# EAGLE library part 219-04* (library powermon)
Surface Mount DIP Switch Series 219 SMT CTS Electronic Components Sourc: www.ctscorp.com
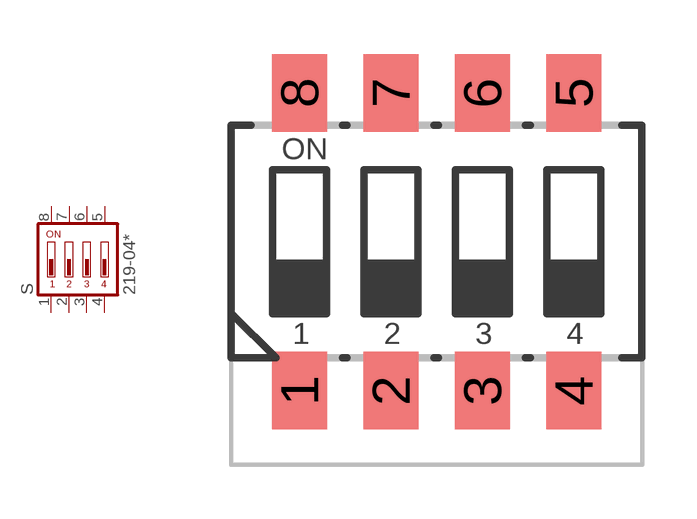
[diagram p0: symbol with the pads of CTS-219-04; footprint CTS-219-04]

Designator prefix S

## 219-04 (OC_FARNELL: unknown; OC_NEWARK: unknown)  [CTS-219-04]
1  1  pas
2  2  pas
3  3  pas
4  4  pas
5  5  pas
6  6  pas
7  7  pas
8  8  pas

## Footprint CTS-219-04 (pad centres in mm)
Dip switch BPA04SB / Digikey CKN6141-ND
smd 1.524 x 2.159: 1 -3.81,-4.128; 2 -1.27,-4.128; 3 1.27,-4.128; 4 3.81,-4.128; 5 3.81,4.128; 6 1.27,4.128; 7 -1.27,4.128; 8 -3.81,4.128